# EAGLE library part AVR_JTAG_HEADER (library m_misc)
ATMEL JTAG Interface Header 10 pin JTAG header used on Dragon programmer.
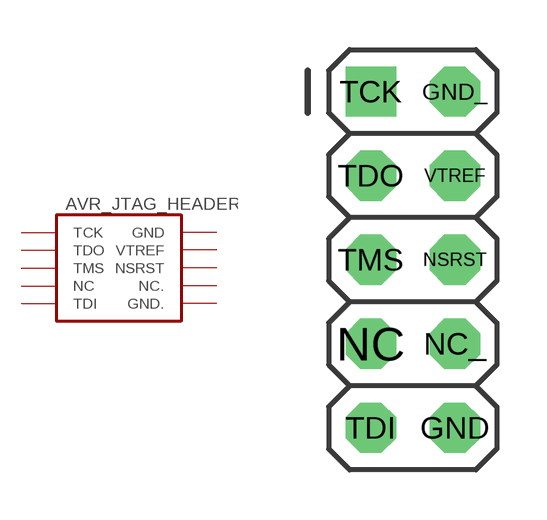
[diagram p10: symbol with the pads of AVR_JTAG; footprint AVR_JTAG]

Designator prefix -

## AVR_JTAG_HEADER  [AVR_JTAG]
GND  GND  pwr
GND_  GND.  pwr
NC  NC  pas
NC_  NC.  pas
NSRST  NSRST
TCK  TCK
TDI  TDI
TDO  TDO
TMS  TMS
VTREF  VTREF  pwr

## Footprint AVR_JTAG (pad centres in mm)
PIN HEADER
drill 1.016 octagon: GND 1.27,-5.08; GND_ 1.27,5.08; NC -1.27,-2.54; NC_ 1.27,-2.54; NSRST 1.27,0; TDI -1.27,-5.08; TDO -1.27,2.54; TMS -1.27,0; VTREF 1.27,2.54
drill 1.016 square: TCK -1.27,5.08